# EAGLE library part LEVELSHIFTER_4CH (library levelshift_4ch)
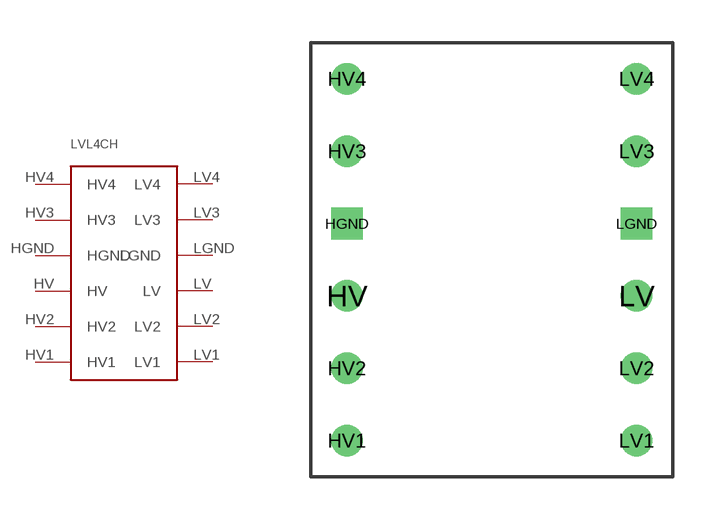
[diagram p0: symbol with the pads of LEVELSHIFTER_4CH; footprint LEVELSHIFTER_4CH]

Designator prefix LVL4CH

## LEVELSHIFTER_4CH  [LEVELSHIFTER_4CH]
HGND  HGND
HV  HV
HV1  HV1
HV2  HV2
HV3  HV3
HV4  HV4
LGND  LGND
LV  LV
LV1  LV1
LV2  LV2
LV3  LV3
LV4  LV4

## Footprint LEVELSHIFTER_4CH (pad centres in mm)
drill 0.6 square: HGND -6.35,2.54; LGND 3.81,2.54
drill 0.6: HV -6.35,0; HV1 -6.35,-5.08; HV2 -6.35,-2.54; HV3 -6.35,5.08; HV4 -6.35,7.62; LV 3.81,0; LV1 3.81,-5.08; LV2 3.81,-2.54; LV3 3.81,5.08; LV4 3.81,7.62